# Altium footprint library library pcb.PcbLib: 4 footprints
Each footprint in its own frame and in the unit in brackets; x right, y up, seen from the top. Pads: shape width x height; smd on the part's side, far side on the other; paste and mask are expansions set on the pad; w line width, h text height; cw(c..) or ccw(c..) is an arc to the next point about the centre after c.
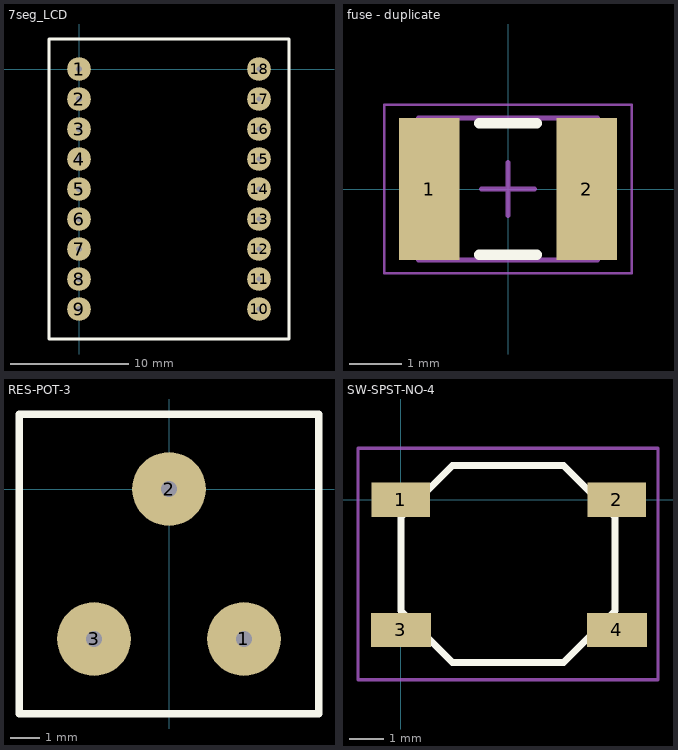
[diagram p0: the footprints below, top view; thin cyan lines are the x and y axes]

## 7seg_LCD [mm]
pads (18):
  round 2 hole 0.55: 1(0,0) 2(0,-2.54) 3(0,-5.08) 4(0,-7.62) 5(0,-10.16) 6(0,-12.7) 7(0,-15.24) 8(0,-17.78) 9(0,-20.32)
  round 2 hole 0.4: 10(15.24,-20.32) 11(15.24,-17.78) 12(15.24,-15.24) 13(15.24,-12.7) 14(15.24,-10.16) 15(15.24,-7.62) 16(15.24,-5.08) 17(15.24,-2.54) 18(15.24,0)
Top Overlay:
  lines w0.254: -2.54,-22.86 -2.54,2.54 17.78,2.54 17.78,-22.86 -2.54,-22.86

## fuse - duplicate [mm] "fuse, Body 3.2x2.5mm, IPC Medium Density"
height 0.71
pads (2):
  rect 1.15x2.7 smd: 1(-1.5,0) 2(1.5,0)
Top Overlay:
  lines w0.2: -0.55,-1.25 0.55,-1.25 ; -0.55,1.25 0.55,1.25
Mechanical 13:
  lines w0.1: -1.7,-1.35 -1.7,1.35 1.7,1.35 1.7,-1.35 -1.7,-1.35
Mechanical 15:
  lines w0.05: -2.35,-1.6 -2.35,1.6 2.35,1.6 2.35,-1.6 -2.35,-1.6
  lines w0.1: -0.5,0 0.5,0 ; 0,-0.5 0,0.5
3D body: height 0.71, standoff 0, extent -1.182,-1.35 1.182,1.35
3D body: height 0.71, standoff 0, extent -1.698,-1.349 -1.178,1.351
3D body: height 0.71, standoff 0, extent 1.179,-1.351 1.698,1.349

## RES-POT-3 [mm]
pads (3):
  round 2.5 hole 0.55: 1(2.54,-5.08) 2(0,0) 3(-2.54,-5.08)
Top Overlay:
  lines w0.254: -5.08,-7.62 -5.08,2.54 5.08,2.54 5.08,-7.62 -5.08,-7.62

## SW-SPST-NO-4 [mm]
pads (4):
  rect 1.7x1 smd: 1(0,0) 2(6.3,0)
  rect 1.75x1 smd: 3(0,-3.8) 4(6.3,-3.8)
Top Overlay:
  lines w0.2: 0,-3.25 0,-0.5 1.5,1 4.75,1 6.25,-0.5 6.25,-3.25 4.75,-4.75 1.5,-4.75 0,-3.25
Mechanical 15:
  lines w0.1: -1.25,-5.25 -1.25,1.5 7.5,1.5 7.5,-5.25 -1.25,-5.25